# EAGLE library part HVDA551-Q1 (library Strawson_Eagle_Lib)
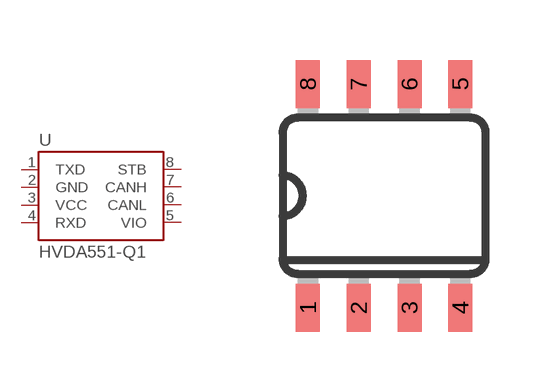
[diagram p7: symbol with the pads of SO08-TIGHT; footprint SO08-TIGHT]

Designator prefix -

## HVDA551-Q1  [SO08-TIGHT]
1  TXD
2  GND
3  VCC
4  RXD
5  VIO
6  CANL
7  CANH
8  STB

## Footprint SO08-TIGHT (pad centres in mm)
smd 0.6 x 1.2: 1 -1.905,-2.8; 2 -0.635,-2.8; 3 0.635,-2.8; 4 1.905,-2.8; 5 1.905,2.8; 6 0.635,2.8; 7 -0.635,2.8; 8 -1.905,2.8